# Altium footprint library AH9248.PcbLib: 2 footprints
Each footprint in its own frame and in the unit in brackets; x right, y up, seen from the top. Pads: shape width x height; smd on the part's side, far side on the other; paste and mask are expansions set on the pad; w line width, h text height; cw(c..) or ccw(c..) is an arc to the next point about the centre after c.
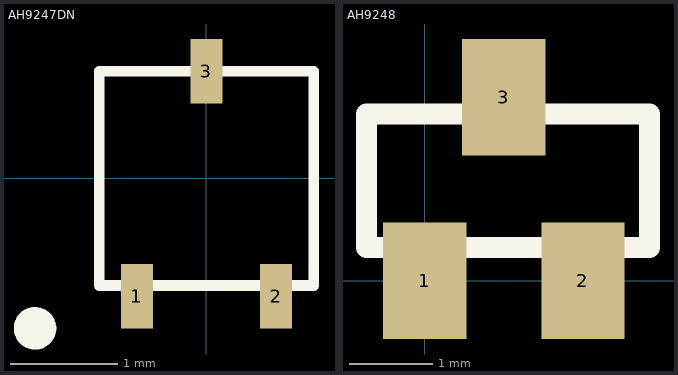
[diagram p0: the footprints below, top view; thin cyan lines are the x and y axes]

## AH9247DN [mm]
pads (3):
  rect 0.3x0.6 smd: 1(-0.65,-1.1) 2(0.65,-1.1) 3(0,1)
Top Overlay:
  circle w0.197: c-1.6,-1.4 r0.1
  lines w0.1: -1,-1 1,-1 1,1 -1,1 -1,-1
3D body: height 0.8, standoff 0, extent -0.999,-0.999 0.999,0.999

## AH9248 [mm] "Hall effect switch"
height 1.45
pads (3):
  rect 1x1.4 smd: 1(0,0) 2(1.9,0) 3(0.95,2.2)
Top Overlay:
  lines w0.254: -0.7,0.4 2.7,0.4 2.7,2 -0.7,2 -0.7,0.4
3D body: height 1.45, standoff 0, extent -0.827,0.273 2.827,2.127